# Altium schematic symbol library ADG1404.SchLib: 1 symbol
Pins are listed as number, name and electrical type; pins without a type are passive.

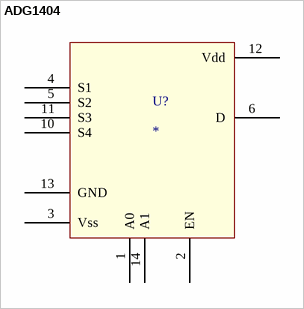
[diagram p0: symbol ADG1404]

## ADG1404
designator U?
pins: 1 A0, 2 EN, 3 Vss (power), 4 S1, 5 S2, 6 D, 10 S4, 11 S3, 12 Vdd (power), 13 GND (power), 14 A1
1 alternate drawing of the same symbol